# Altium footprint library Kursovaya.PcbLib: 28 footprints (part 2 of 2)
Each footprint in its own frame and in the unit in brackets; x right, y up, seen from the top. Pads: shape width x height; smd on the part's side, far side on the other; paste and mask are expansions set on the pad; w line width, h text height; cw(c..) or ccw(c..) is an arc to the next point about the centre after c.
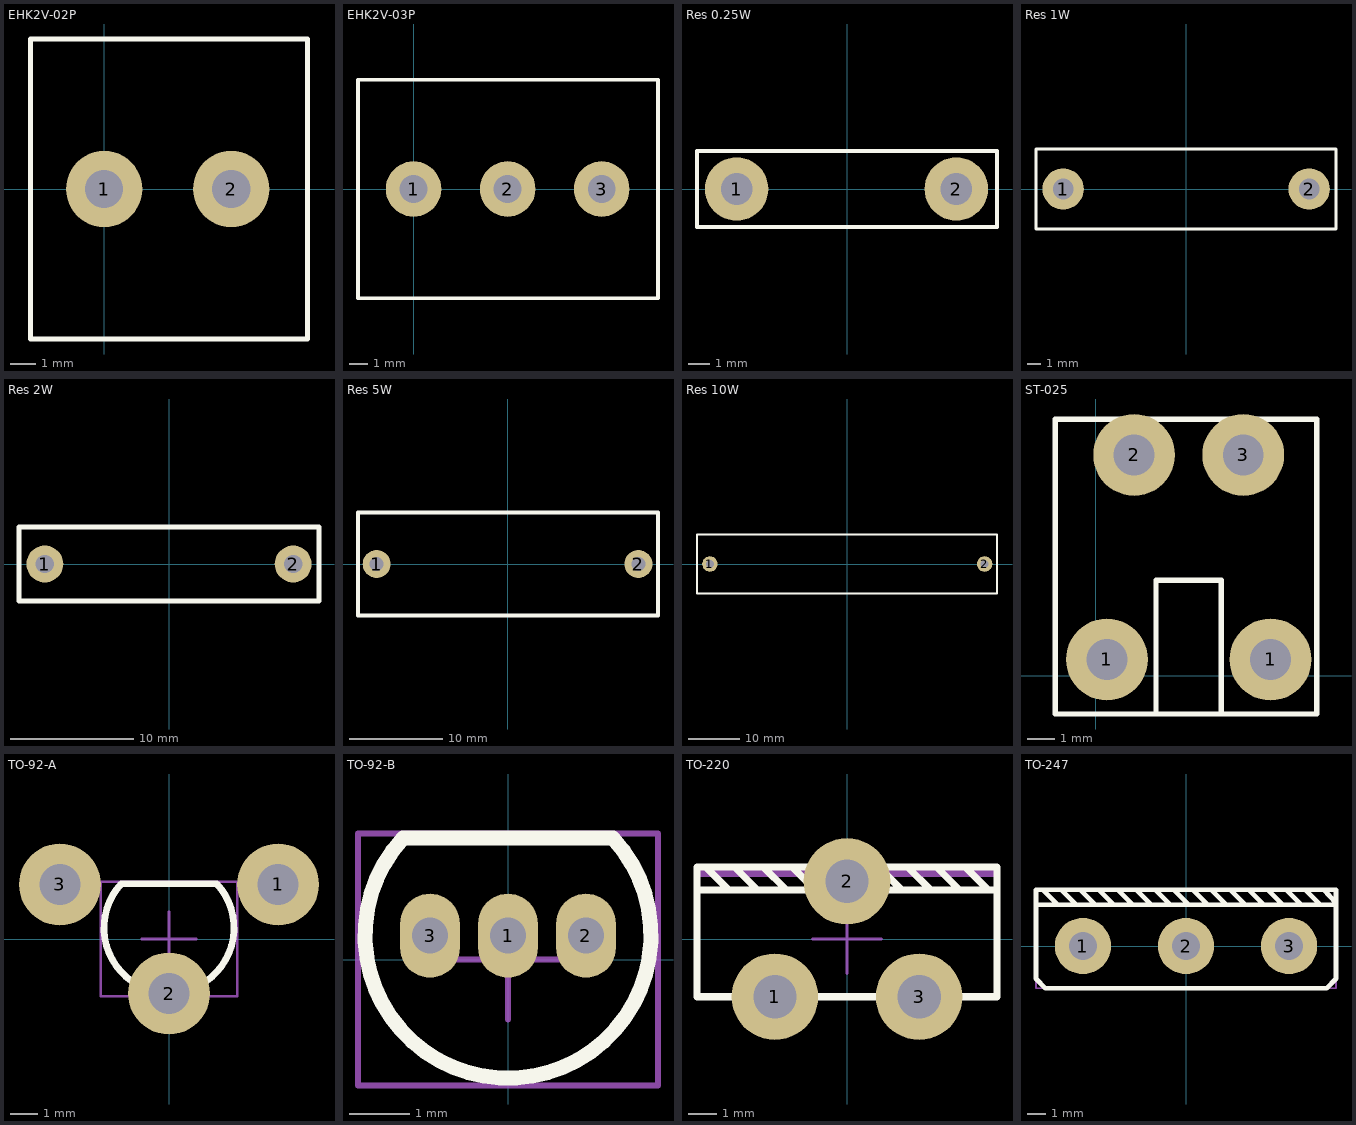
[diagram p1: the footprints below, top view; thin cyan lines are the x and y axes]

## EHK2V-02P [mm]
pads (2):
  round 3 hole 1.5: 1(0,0) 2(5,0)
Top Overlay:
  lines w0.2: -2.9,-5.9 -2.9,5.9 8,5.9 8,-5.9 -2.9,-5.9
3D body "EHK2V-02P.stp": height 20, standoff -2, extent -2.54,-5.6 7.62,5.6

## EHK2V-03P [mm]
pads (3):
  round 3 hole 1.5: 1(0,0) 2(5.08,0) 3(10.16,0)
Top Overlay:
  lines w0.2: -3,-5.9 13.2,-5.9 13.2,5.9 -3,5.9 -3,-5.9
3D body "EHK2V-03P.stp": height 20, standoff -2, extent -2.54,-5.6 12.7,5.6

## Res 0.25W [mm]
pads (2):
  round 3 hole 1.5: 1(-5.225,0) 2(5.175,0)
Top Overlay:
  lines w0.2: -7.1,-1.8 7.1,-1.8 7.1,1.8 -7.1,1.8 -7.1,-1.8
3D body "res-10.35_6.8x2.8.step": height 3.89, standoff -1.5, extent -5.423,-1.4 5.423,1.4

## Res 1W [mm]
pads (2):
  round 3 hole 1.5: 1(-8.925,0) 2(8.95,0)
Top Overlay:
  lines w0.2: -10.9,-2.9 -10.9,2.9 10.9,2.9 10.9,-2.9 -10.9,-2.9
3D body "res-17.78_11.4x5.1.step": height 6.15, standoff -1.5, extent -9.237,-2.55 9.237,2.55

## Res 2W [mm]
pads (2):
  round 3 hole 1.5: 1(-10.1,0) 2(10.1,0)
Top Overlay:
  lines w0.4: -12.2,-3 -12.2,3 12.2,3 12.2,-3 -12.2,-3
3D body "res-20.32_15.2x5.1.step": height 6.25, standoff -1.4, extent -10.656,-2.55 10.656,2.55

## Res 5W [mm]
pads (2):
  round 3 hole 1.5: 1(-14,0) 2(14,0)
Top Overlay:
  lines w0.4: -16,-5.5 16.1,-5.5 16.1,5.5 -16,5.5 -16,-5.5
3D body "RESAR2750W80L2200T1000H900_5W.STEP": height 9, standoff -2.5, extent -14.15,-5 14.15,5

## Res 10W [mm]
pads (2):
  round 3 hole 1.5: 1(-26.5,0) 2(26.5,0)
Top Overlay:
  lines w0.4: -29,-5.7 -29,5.7 28.9,5.7 28.9,-5.7 -29,-5.7
3D body "RESAR5334W80L4800T1000H900_10W.STEP": height 9, standoff -2.5, extent -27.07,-5 27.07,5

## ST-025 [mm]
pads (4):
  round 3 hole 1.5: 1(0.4,0.6) 1(6.4,0.6) 2(1.4,8.1) 3(5.4,8.1)
Top Overlay:
  lines w0.2: -1.5,-1.4 -1.5,9.4 8.1,9.4 8.1,-1.4 -1.5,-1.4 ; 2.2,-1.4 4.6,-1.4 4.6,3.5 2.2,3.5 2.2,-1.4
3D body "Audio Jack 3.5 mm  Cliff FC68125.step": height 6, standoff -2.81, extent -0.436,-5.8 7.036,9.1

## TO-92-A [mm]
height 10
pads (3):
  round 3 hole 1.5: 1(4,2) 2(0,-2) 3(-4,2)
Top Overlay:
  lines w0.25: -1.75,2.025 ccw(c0,0.408) 1.75,2.025 -1.75,2.025
Mechanical 13:
  lines w0.1: -1.75,2.025 ccw(c0,0.408) 1.75,2.025 -1.75,2.025
Mechanical 15:
  lines w0.1: -1,0 1,0 ; 0,-1 0,1 ; -2.5,-2.1 -2.5,2.1 2.5,2.1 2.5,-2.1 -2.5,-2.1
3D body "User Library-TO-92B.step": height 10, standoff -1.02, extent -2.4,-1.915 2.4,2.015

## TO-92-B [mm]
height 10
pads (3):
  oval 1x1.4 hole 0.6: 1(0,0.4) 2(1.3,0.4) 3(-1.3,0.4)
Top Overlay:
  lines w0.25: -1.75,2.025 ccw(c0,0.408) 1.75,2.025 -1.75,2.025
Mechanical 13:
  lines w0.1: -1.75,2.025 ccw(c0,0.408) 1.75,2.025 -1.75,2.025
Mechanical 15:
  lines w0.1: -1,0 1,0 ; 0,-1 0,1 ; -2.5,-2.1 -2.5,2.1 2.5,2.1 2.5,-2.1 -2.5,-2.1
3D body "User Library-TO-92A.step": height 10, standoff -1, extent -2.4,-1.915 2.4,2.015

## TO-220 [mm]
height 15
pads (3):
  round 3 hole 1.5: 1(-2.5,-2) 2(0,2) 3(2.5,-2)
Top Overlay:
  lines w0.25: -5.2,1.7 5.2,1.7 ; -4.9,2.5 -4.1,1.7 ; -3.9,2.5 -3.1,1.7 ; -2.9,2.5 -2.1,1.7 ; -1.9,2.5 -1.1,1.7 ; -0.9,2.5 -0.1,1.7 ; 0.1,2.5 0.9,1.7 ; 1.1,2.5 1.9,1.7 ; 2.1,2.5 2.9,1.7 ; 3.1,2.5 3.9,1.7 ; 4.1,2.5 4.9,1.7 ; -5.2,-2 5.2,-2 5.2,2.5 -5.2,2.5 -5.2,-2
Mechanical 13:
  lines w0.1: -5.2,2.2 5.2,2.2 ; -5.2,2.3 5.2,2.3 ; -5.2,2.4 5.2,2.4 ; -5.2,-2 -5.2,2.5 5.2,2.5 5.2,-2 -5.2,-2
Mechanical 15:
  lines w0.1: -1.2,0 1.2,0 ; 0,-1.2 0,1.2 ; -5.2,-2 5.2,-2 5.2,2.5 -5.2,2.5 -5.2,-2
3D body "User Library-Transistors TO-220 FULLPAK 3-PIN.step": height 26.87, standoff -2.6, extent -5.08,-1.783 5.08,2.917

## TO-247 [mm]
height 20
pads (3):
  round 3 hole 1.5: 1(-5.5,0) 2(0,0) 3(5.5,0)
Top Overlay:
  lines w0.25: -7.95,2.2 8,2.2 ; -7.65,3 -6.85,2.2 ; -6.65,3 -5.85,2.2 ; -5.65,3 -4.85,2.2 ; -4.65,3 -3.85,2.2 ; -3.65,3 -2.85,2.2 ; -2.65,3 -1.85,2.2 ; -1.65,3 -0.85,2.2 ; -0.65,3 0.15,2.2 ; 0.35,3 1.15,2.2 ; 1.35,3 2.15,2.2 ; 2.35,3 3.15,2.2 ; 3.35,3 4.15,2.2 ; 4.35,3 5.15,2.2 ; 5.35,3 6.15,2.2 ; 6.35,3 7.15,2.2 ; 7.35,3 8,2.3
  lines w0.254: -8,-1.75 -7.5,-2.25 7.5,-2.25 8,-1.75 8,3 -8,3 -8,-1.75
Mechanical 15:
  lines w0.1: -1,0 1,0 ; 0,-1 0,1 ; -8,-2.25 8,-2.25 8,3 -8,3 -8,-2.25
3D body "User Library-TO-247AC.STEP": height 26.1, standoff -1.5, extent -7.9,-2.3 7.9,3